# EAGLE library part 5MM_PIN_PCB_WIRE_MOUNT (library ihpcb-connector)
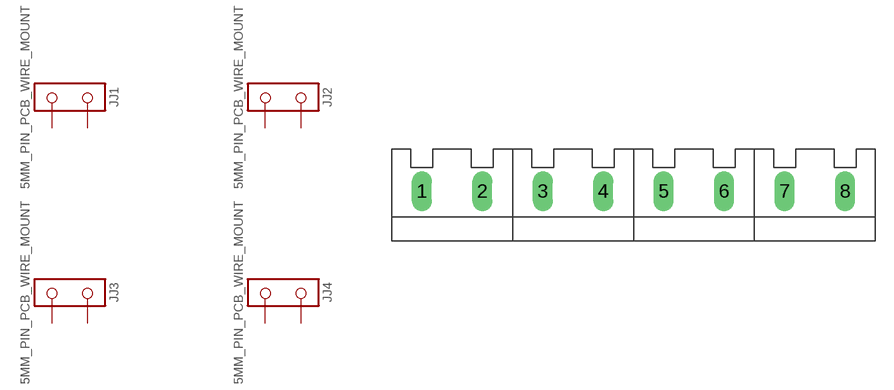
[diagram p0: symbol with the pads of 5MM_8_PIN_PCB_WIRE_MOUNT; footprint 5MM_8_PIN_PCB_WIRE_MOUNT]

Designator prefix J; gates J1=5MM_2_PIN_PCB_WIRE_MOUNT J2=5MM_2_PIN_PCB_WIRE_MOUNT J3=5MM_2_PIN_PCB_WIRE_MOUNT J4=5MM_2_PIN_PCB_WIRE_MOUNT

## 5MM_PIN_PCB_WIRE_MOUNT  [5MM_8_PIN_PCB_WIRE_MOUNT]
1  J1:1
2  J1:2
3  J2:1
4  J2:2
5  J3:1
6  J3:2
7  J4:1
8  J4:2

## Footprint 5MM_8_PIN_PCB_WIRE_MOUNT (pad centres in mm)
drill 1.1 long: 1 -17.5,0; 2 -12.5,0; 3 -7.5,0; 4 -2.5,0; 5 2.5,0; 6 7.5,0; 7 12.5,0; 8 17.5,0